# EAGLE library part WF-6 (library gost_con_wf)
Разъем WF шаг 2.54mm
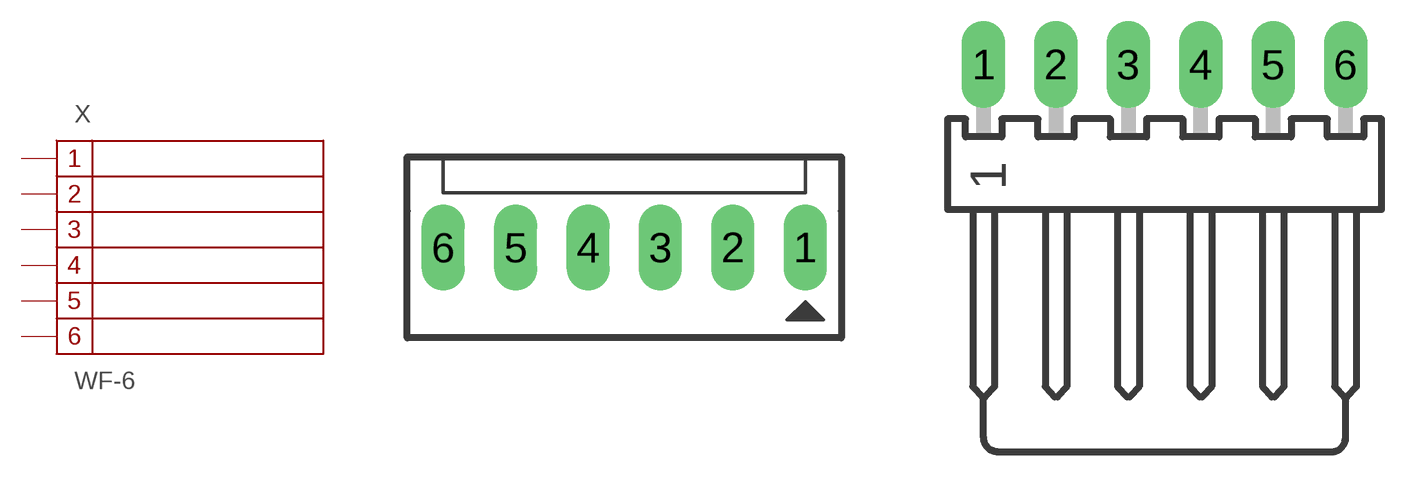
[diagram p5: symbol with the pads of WF-6; footprints WF-6, WF-6R]

Designator prefix X

## WF-6  [WF-6]
1  1
2  2
3  3
4  4
5  5
6  6

## WF-6R  [WF-6R]
Pads as for WF-6

## Footprint WF-6 (pad centres in mm)
Разъем WF-6 2.54mm
drill 1 pad 1.5 long: 1 6.35,0; 2 3.81,0; 3 1.27,0; 4 -1.27,0; 5 -3.81,0; 6 -6.35,0

## Footprint WF-6R (pad centres in mm)
Разъем WF-6R 2.54mm
drill 1.016 pad 1.5 long: 1 -6.35,0; 2 -3.81,0; 3 -1.27,0; 4 1.27,0; 5 3.81,0; 6 6.35,0